# EAGLE library part OSD3358-512M-IND (library Octavo-Systems OSDZU3)
Octavo Systems LLC OSD335x Family SiP: 27mm x 27mm, 1.27mm pitch 400 pin BGA contains AM3358, 512MB DDR3, TPS65217, TL5209 and passives. Industrial Temperature (case): -40C to 85C.
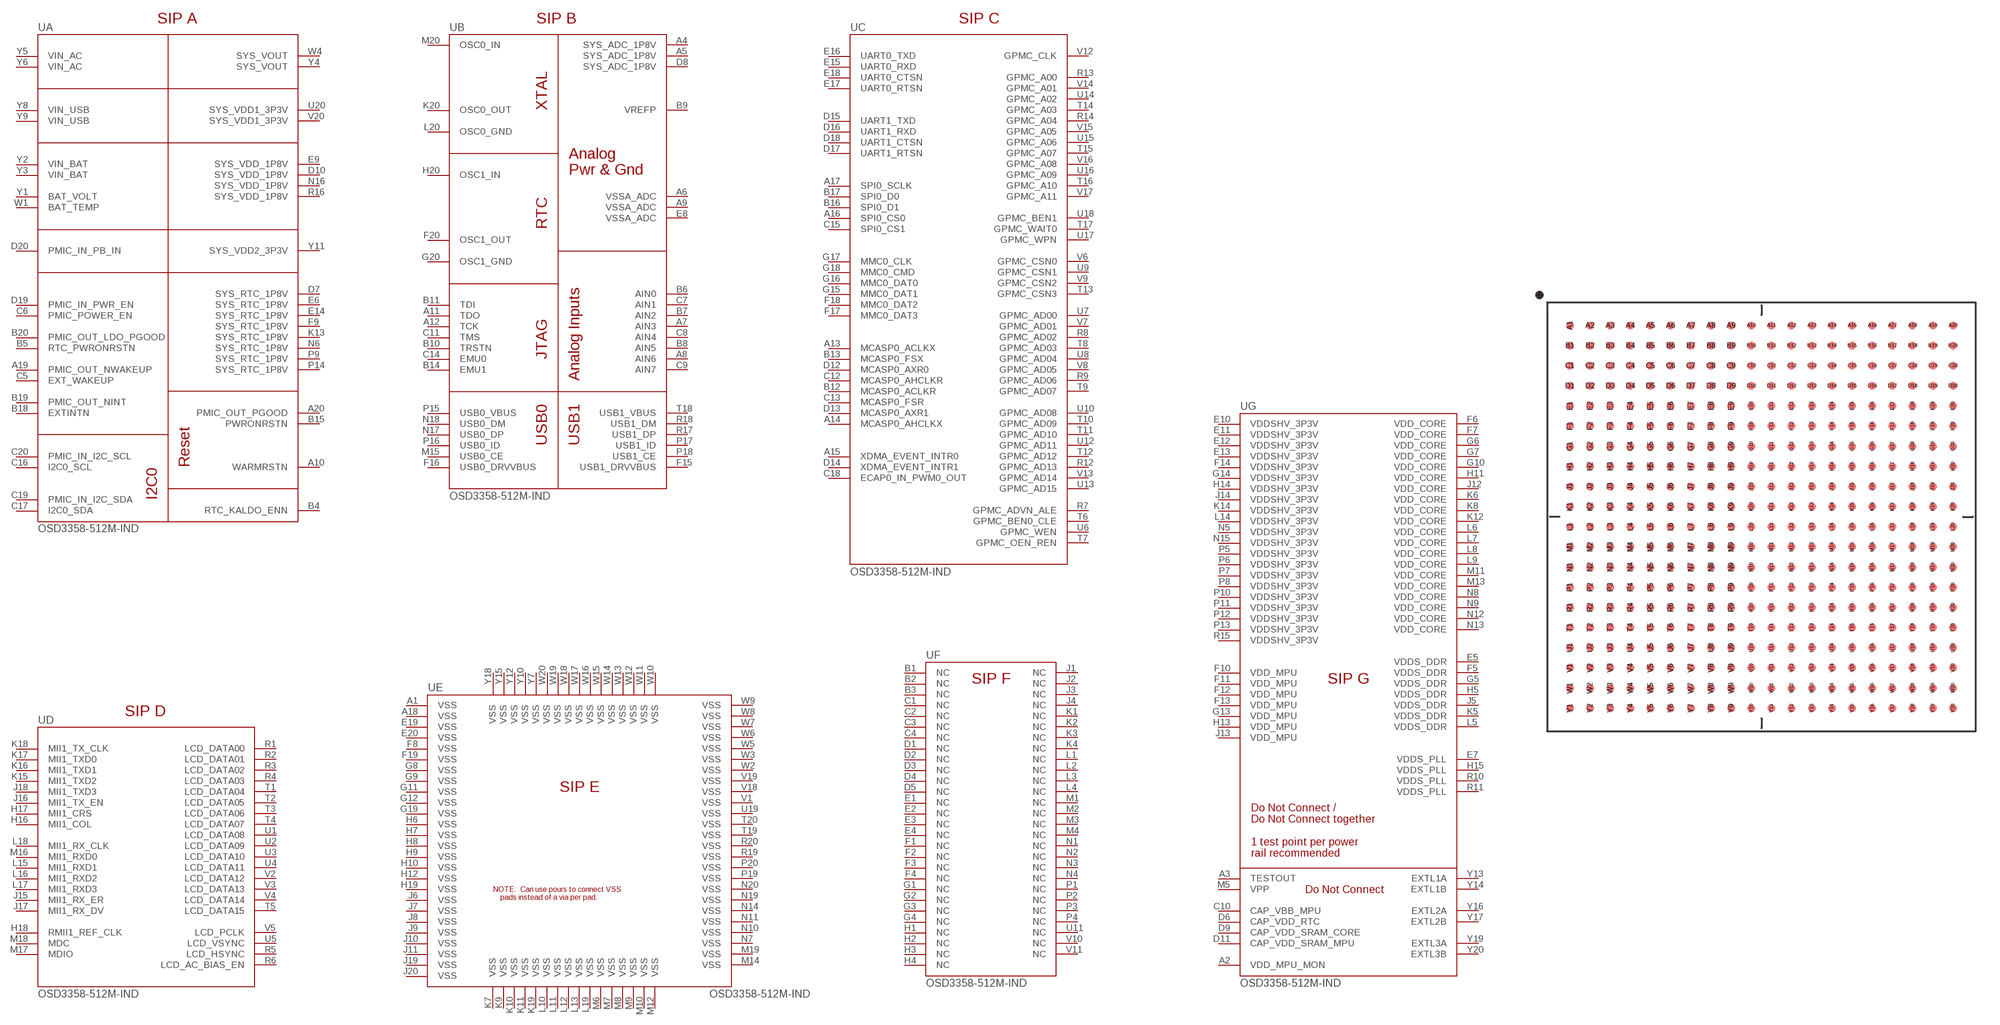
[diagram p4: symbol with the pads of OSD335X-BGA-400; footprint OSD335X-BGA-400]

Designator prefix -; gates A=OSD335X-BASE-LOGICAL-A B=OSD335X-BASE-LOGICAL-B C=OSD335X-BASE-LOGICAL-C D=OSD335X-BASE-LOGICAL-D E=OSD335X-BASE-LOGICAL-E F=OSD335X-BASE-LOGICAL-F G=OSD335X-BASE-LOGICAL-G

## OSD3358-512M-IND  [OSD335X-BGA-400]
A1  E:VSS
A2  G:VDD_MPU_MON
A3  G:TESTOUT
A4  B:SYS_ADC_1P8V
A5  B:SYS_ADC_1P8V
A6  B:VSSA_ADC
A7  B:AIN3
A8  B:AIN6
A9  B:VSSA_ADC
A10  A:WARMRSTN
A11  B:TDO
A12  B:TCK
A13  C:MCASP0_ACLKX
A14  C:MCASP0_AHCLKX
A15  C:XDMA_EVENT_INTR0
A16  C:SPI0_CS0
A17  C:SPI0_SCLK
A18  E:VSS
A19  A:PMIC_OUT_NWAKEUP  out
A20  A:PMIC_OUT_PGOOD  out
B1  F:NC
B2  F:NC
B3  F:NC
B4  A:RTC_KALDO_ENN  in
B5  A:RTC_PWRONRSTN
B6  B:AIN0
B7  B:AIN2
B8  B:AIN5
B9  B:VREFP
B10  B:TRSTN
B11  B:TDI
B12  C:MCASP0_ACLKR
B13  C:MCASP0_FSX
B14  B:EMU1
B15  A:PWRONRSTN  in
B16  C:SPI0_D1
B17  C:SPI0_D0
B18  A:EXTINTN
B19  A:PMIC_OUT_NINT  out
B20  A:PMIC_OUT_LDO_PGOOD  out
C1  F:NC
C2  F:NC
C3  F:NC
C4  F:NC
C5  A:EXT_WAKEUP
C6  A:PMIC_POWER_EN  out
C7  B:AIN1
C8  B:AIN4
C9  B:AIN7
C10  G:CAP_VBB_MPU
C11  B:TMS
C12  C:MCASP0_AHCLKR
C13  C:MCASP0_FSR
C14  B:EMU0
C15  C:SPI0_CS1
C16  A:I2C0_SCL
C17  A:I2C0_SDA
C18  C:ECAP0_IN_PWM0_OUT
C19  A:PMIC_IN_I2C_SDA
C20  A:PMIC_IN_I2C_SCL
D1  F:NC
D2  F:NC
D3  F:NC
D4  F:NC
D5  F:NC
D6  G:CAP_VDD_RTC
D7  A:SYS_RTC_1P8V  out
D8  B:SYS_ADC_1P8V
D9  G:CAP_VDD_SRAM_CORE
D10  A:SYS_VDD_1P8V  out
D11  G:CAP_VDD_SRAM_MPU
D12  C:MCASP0_AXR0
D13  C:MCASP0_AXR1
D14  C:XDMA_EVENT_INTR1
D15  C:UART1_TXD
D16  C:UART1_RXD
D17  C:UART1_RTSN
D18  C:UART1_CTSN
D19  A:PMIC_IN_PWR_EN  in
D20  A:PMIC_IN_PB_IN  in
E1  F:NC
E2  F:NC
E3  F:NC
E4  F:NC
E5  G:VDDS_DDR
E6  A:SYS_RTC_1P8V  out
E7  G:VDDS_PLL
E8  B:VSSA_ADC
E9  A:SYS_VDD_1P8V  out
E10  G:VDDSHV_3P3V
E11  G:VDDSHV_3P3V
E12  G:VDDSHV_3P3V
E13  G:VDDSHV_3P3V
E14  A:SYS_RTC_1P8V  out
E15  C:UART0_RXD
E16  C:UART0_TXD
E17  C:UART0_RTSN
E18  C:UART0_CTSN
E19  E:VSS
E20  E:VSS
F1  F:NC
F2  F:NC
F3  F:NC
F4  F:NC
F5  G:VDDS_DDR
F6  G:VDD_CORE
F7  G:VDD_CORE
F8  E:VSS
F9  A:SYS_RTC_1P8V  out
F10  G:VDD_MPU
F11  G:VDD_MPU
F12  G:VDD_MPU
F13  G:VDD_MPU
F14  G:VDDSHV_3P3V
F15  B:USB1_DRVVBUS
F16  B:USB0_DRVVBUS
F17  C:MMC0_DAT3
F18  C:MMC0_DAT2
F19  E:VSS
F20  B:OSC1_OUT
G1  F:NC
G2  F:NC
G3  F:NC
G4  F:NC
G5  G:VDDS_DDR
G6  G:VDD_CORE
G7  G:VDD_CORE
G8  E:VSS
G9  E:VSS
G10  G:VDD_CORE
G11  E:VSS
G12  E:VSS
G13  G:VDD_MPU
G14  G:VDDSHV_3P3V
G15  C:MMC0_DAT1
G16  C:MMC0_DAT0
G17  C:MMC0_CLK
G18  C:MMC0_CMD
G19  E:VSS
G20  B:OSC1_GND
H1  F:NC
H2  F:NC
H3  F:NC
H4  F:NC
H5  G:VDDS_DDR
H6  E:VSS
H7  E:VSS
H8  E:VSS
H9  E:VSS
H10  E:VSS
H11  G:VDD_CORE
H12  E:VSS
H13  G:VDD_MPU
H14  G:VDDSHV_3P3V
H15  G:VDDS_PLL
H16  D:MII1_COL
H17  D:MII1_CRS
H18  D:RMII1_REF_CLK
H19  E:VSS
H20  B:OSC1_IN
J1  F:NC
J2  F:NC
J3  F:NC
J4  F:NC
J5  G:VDDS_DDR
J6  E:VSS
J7  E:VSS
J8  E:VSS
J9  E:VSS
J10  E:VSS
J11  E:VSS
J12  G:VDD_CORE
J13  G:VDD_MPU
J14  G:VDDSHV_3P3V
J15  D:MII1_RX_ER
J16  D:MII1_TX_EN
J17  D:MII1_RX_DV
J18  D:MII1_TXD3
J19  E:VSS
J20  E:VSS
K1  F:NC
K2  F:NC
K3  F:NC
K4  F:NC
K5  G:VDDS_DDR
K6  G:VDD_CORE
K7  E:VSS
K8  G:VDD_CORE
K9  E:VSS
K10  E:VSS
K11  E:VSS
K12  G:VDD_CORE
K13  A:SYS_RTC_1P8V  out
K14  G:VDDSHV_3P3V
K15  D:MII1_TXD2
K16  D:MII1_TXD1
K17  D:MII1_TXD0
K18  D:MII1_TX_CLK
K19  E:VSS
K20  B:OSC0_OUT
L1  F:NC
L2  F:NC
L3  F:NC
L4  F:NC
L5  G:VDDS_DDR
L6  G:VDD_CORE
L7  G:VDD_CORE
L8  G:VDD_CORE
L9  G:VDD_CORE
L10  E:VSS
L11  E:VSS
L12  E:VSS
L13  E:VSS
L14  G:VDDSHV_3P3V
L15  D:MII1_RXD1
L16  D:MII1_RXD2
L17  D:MII1_RXD3
L18  D:MII1_RX_CLK
L19  E:VSS
L20  B:OSC0_GND
M1  F:NC
M2  F:NC
M3  F:NC
M4  F:NC
M5  G:VPP
M6  E:VSS
M7  E:VSS
M8  E:VSS
M9  E:VSS
M10  E:VSS
M11  G:VDD_CORE
M12  E:VSS
M13  G:VDD_CORE
M14  E:VSS
M15  B:USB0_CE
M16  D:MII1_RXD0
M17  D:MDIO
M18  D:MDC
M19  E:VSS
M20  B:OSC0_IN
N1  F:NC
N2  F:NC
N3  F:NC
N4  F:NC
N5  G:VDDSHV_3P3V
N6  A:SYS_RTC_1P8V  out
N7  E:VSS
N8  G:VDD_CORE
N9  G:VDD_CORE
N10  E:VSS
N11  E:VSS
N12  G:VDD_CORE
N13  G:VDD_CORE
N14  E:VSS
N15  G:VDDSHV_3P3V
N16  A:SYS_VDD_1P8V  out
N17  B:USB0_DP
N18  B:USB0_DM
N19  E:VSS
N20  E:VSS
P1  F:NC
P2  F:NC
P3  F:NC
P4  F:NC
P5  G:VDDSHV_3P3V
P6  G:VDDSHV_3P3V
P7  G:VDDSHV_3P3V
P8  G:VDDSHV_3P3V
P9  A:SYS_RTC_1P8V  out
P10  G:VDDSHV_3P3V
P11  G:VDDSHV_3P3V
P12  G:VDDSHV_3P3V
P13  G:VDDSHV_3P3V
P14  A:SYS_RTC_1P8V  out
P15  B:USB0_VBUS
P16  B:USB0_ID
P17  B:USB1_ID
P18  B:USB1_CE
P19  E:VSS
P20  E:VSS
R1  D:LCD_DATA00
R2  D:LCD_DATA01
R3  D:LCD_DATA02
R4  D:LCD_DATA03
R5  D:LCD_HSYNC
R6  D:LCD_AC_BIAS_EN
R7  C:GPMC_ADVN_ALE
R8  C:GPMC_AD02
R9  C:GPMC_AD06
R10  G:VDDS_PLL
R11  G:VDDS_PLL
R12  C:GPMC_AD13
R13  C:GPMC_A00
R14  C:GPMC_A04
R15  G:VDDSHV_3P3V
R16  A:SYS_VDD_1P8V  out
R17  B:USB1_DP
R18  B:USB1_DM
R19  E:VSS
R20  E:VSS
T1  D:LCD_DATA04
T2  D:LCD_DATA05
T3  D:LCD_DATA06
T4  D:LCD_DATA07
T5  D:LCD_DATA15
T6  C:GPMC_BEN0_CLE
T7  C:GPMC_OEN_REN
T8  C:GPMC_AD03
T9  C:GPMC_AD07
T10  C:GPMC_AD09
T11  C:GPMC_AD10
T12  C:GPMC_AD12
T13  C:GPMC_CSN3
T14  C:GPMC_A03
T15  C:GPMC_A07
T16  C:GPMC_A10
T17  C:GPMC_WAIT0
T18  B:USB1_VBUS
T19  E:VSS
T20  E:VSS
U1  D:LCD_DATA08
U2  D:LCD_DATA09
U3  D:LCD_DATA10
U4  D:LCD_DATA11
U5  D:LCD_VSYNC
U6  C:GPMC_WEN
U7  C:GPMC_AD00
U8  C:GPMC_AD04
U9  C:GPMC_CSN1
U10  C:GPMC_AD08
U11  F:NC
U12  C:GPMC_AD11
U13  C:GPMC_AD15
U14  C:GPMC_A02
U15  C:GPMC_A06
U16  C:GPMC_A09
U17  C:GPMC_WPN
U18  C:GPMC_BEN1
U19  E:VSS
U20  A:SYS_VDD1_3P3V  out
V1  E:VSS
V2  D:LCD_DATA12
V3  D:LCD_DATA13
V4  D:LCD_DATA14
V5  D:LCD_PCLK
V6  C:GPMC_CSN0
V7  C:GPMC_AD01
V8  C:GPMC_AD05
V9  C:GPMC_CSN2
V10  F:NC
V11  F:NC
V12  C:GPMC_CLK
V13  C:GPMC_AD14
V14  C:GPMC_A01
V15  C:GPMC_A05
V16  C:GPMC_A08
V17  C:GPMC_A11
V18  E:VSS
V19  E:VSS
V20  A:SYS_VDD1_3P3V  out
W1  A:BAT_TEMP  in
W2  E:VSS
W3  E:VSS
W4  A:SYS_VOUT  out
W5  E:VSS
W6  E:VSS
W7  E:VSS
W8  E:VSS
W9  E:VSS
W10  E:VSS
W11  E:VSS
W12  E:VSS
W13  E:VSS
W14  E:VSS
W15  E:VSS
W16  E:VSS
W17  E:VSS
W18  E:VSS
W19  E:VSS
W20  E:VSS
Y1  A:BAT_VOLT  in
Y2  A:VIN_BAT  in
Y3  A:VIN_BAT  in
Y4  A:SYS_VOUT  out
Y5  A:VIN_AC  in
Y6  A:VIN_AC  in
Y7  E:VSS
Y8  A:VIN_USB  in
Y9  A:VIN_USB  in
Y10  E:VSS
Y11  A:SYS_VDD2_3P3V  out
Y12  E:VSS
Y13  G:EXTL1A
Y14  G:EXTL1B
Y15  E:VSS
Y16  G:EXTL2A
Y17  G:EXTL2B
Y18  E:VSS
Y19  G:EXTL3A
Y20  G:EXTL3B

## Footprint OSD335X-BGA-400 (pad centres in mm)
smd 0.5 x 0.5: A1 -12.065,12.065; A2 -10.795,12.065; A3 -9.525,12.065; A4 -8.255,12.065; A5 -6.985,12.065; A6 -5.715,12.065; A7 -4.445,12.065; A8 -3.175,12.065; A9 -1.905,12.065; A10 -0.635,12.065; A11 0.635,12.065; A12 1.905,12.065; A13 3.175,12.065; A14 4.445,12.065; A15 5.715,12.065; A16 6.985,12.065; A17 8.255,12.065; A18 9.525,12.065; A19 10.795,12.065; A20 12.065,12.065; B1 -12.065,10.795; B2 -10.795,10.795; B3 -9.525,10.795; B4 -8.255,10.795; B5 -6.985,10.795; B6 -5.715,10.795; B7 -4.445,10.795; B8 -3.175,10.795; B9 -1.905,10.795; B10 -0.635,10.795; B11 0.635,10.795; B12 1.905,10.795; B13 3.175,10.795; B14 4.445,10.795; B15 5.715,10.795; B16 6.985,10.795; B17 8.255,10.795; B18 9.525,10.795; B19 10.795,10.795; B20 12.065,10.795; C1 -12.065,9.525; C2 -10.795,9.525; C3 -9.525,9.525; C4 -8.255,9.525; C5 -6.985,9.525; C6 -5.715,9.525; C7 -4.445,9.525; C8 -3.175,9.525; C9 -1.905,9.525; C10 -0.635,9.525; C11 0.635,9.525; C12 1.905,9.525; C13 3.175,9.525; C14 4.445,9.525; C15 5.715,9.525; C16 6.985,9.525; C17 8.255,9.525; C18 9.525,9.525; C19 10.795,9.525; C20 12.065,9.525; D1 -12.065,8.255; D2 -10.795,8.255; D3 -9.525,8.255; D4 -8.255,8.255; D5 -6.985,8.255; D6 -5.715,8.255; D7 -4.445,8.255; D8 -3.175,8.255; D9 -1.905,8.255; D10 -0.635,8.255; D11 0.635,8.255; D12 1.905,8.255; D13 3.175,8.255; D14 4.445,8.255; D15 5.715,8.255; D16 6.985,8.255; D17 8.255,8.255; D18 9.525,8.255; D19 10.795,8.255; D20 12.065,8.255; E1 -12.065,6.985; E2 -10.795,6.985; E3 -9.525,6.985; E4 -8.255,6.985; E5 -6.985,6.985; E6 -5.715,6.985; E7 -4.445,6.985; E8 -3.175,6.985; E9 -1.905,6.985; E10 -0.635,6.985; E11 0.635,6.985; E12 1.905,6.985; E13 3.175,6.985; E14 4.445,6.985; E15 5.715,6.985; E16 6.985,6.985; E17 8.255,6.985; E18 9.525,6.985; E19 10.795,6.985; E20 12.065,6.985; F1 -12.065,5.715; F2 -10.795,5.715; F3 -9.525,5.715; F4 -8.255,5.715; F5 -6.985,5.715; F6 -5.715,5.715; F7 -4.445,5.715; F8 -3.175,5.715; F9 -1.905,5.715; F10 -0.635,5.715; F11 0.635,5.715; F12 1.905,5.715; F13 3.175,5.715; F14 4.445,5.715; F15 5.715,5.715; F16 6.985,5.715; F17 8.255,5.715; F18 9.525,5.715; F19 10.795,5.715; F20 12.065,5.715; G1 -12.065,4.445; G2 -10.795,4.445; G3 -9.525,4.445; G4 -8.255,4.445; G5 -6.985,4.445; G6 -5.715,4.445; G7 -4.445,4.445; G8 -3.175,4.445; G9 -1.905,4.445; G10 -0.635,4.445; G11 0.635,4.445; G12 1.905,4.445; G13 3.175,4.445; G14 4.445,4.445; G15 5.715,4.445; G16 6.985,4.445; G17 8.255,4.445; G18 9.525,4.445; G19 10.795,4.445; G20 12.065,4.445; H1 -12.065,3.175; H2 -10.795,3.175; H3 -9.525,3.175; H4 -8.255,3.175; H5 -6.985,3.175; H6 -5.715,3.175; H7 -4.445,3.175; H8 -3.175,3.175; H9 -1.905,3.175; H10 -0.635,3.175; H11 0.635,3.175; H12 1.905,3.175; H13 3.175,3.175; H14 4.445,3.175; H15 5.715,3.175; H16 6.985,3.175; H17 8.255,3.175; H18 9.525,3.175; H19 10.795,3.175; H20 12.065,3.175; J1 -12.065,1.905; J2 -10.795,1.905; J3 -9.525,1.905; J4 -8.255,1.905; J5 -6.985,1.905; J6 -5.715,1.905; J7 -4.445,1.905; J8 -3.175,1.905; J9 -1.905,1.905; J10 -0.635,1.905; J11 0.635,1.905; J12 1.905,1.905; J13 3.175,1.905; J14 4.445,1.905; J15 5.715,1.905; J16 6.985,1.905; J17 8.255,1.905; J18 9.525,1.905; J19 10.795,1.905; J20 12.065,1.905; K1 -12.065,0.635; K2 -10.795,0.635; K3 -9.525,0.635; K4 -8.255,0.635; K5 -6.985,0.635; K6 -5.715,0.635; K7 -4.445,0.635; K8 -3.175,0.635; K9 -1.905,0.635; K10 -0.635,0.635; K11 0.635,0.635; K12 1.905,0.635; K13 3.175,0.635; K14 4.445,0.635; K15 5.715,0.635; K16 6.985,0.635; K17 8.255,0.635; K18 9.525,0.635; K19 10.795,0.635; K20 12.065,0.635; L1 -12.065,-0.635; L2 -10.795,-0.635; L3 -9.525,-0.635; L4 -8.255,-0.635; L5 -6.985,-0.635; L6 -5.715,-0.635; L7 -4.445,-0.635; L8 -3.175,-0.635; L9 -1.905,-0.635; L10 -0.635,-0.635; L11 0.635,-0.635; L12 1.905,-0.635; L13 3.175,-0.635; L14 4.445,-0.635; L15 5.715,-0.635; L16 6.985,-0.635; L17 8.255,-0.635; L18 9.525,-0.635; L19 10.795,-0.635; L20 12.065,-0.635; M1 -12.065,-1.905; M2 -10.795,-1.905; M3 -9.525,-1.905; M4 -8.255,-1.905; M5 -6.985,-1.905; M6 -5.715,-1.905; M7 -4.445,-1.905; M8 -3.175,-1.905; M9 -1.905,-1.905; M10 -0.635,-1.905; M11 0.635,-1.905; M12 1.905,-1.905; M13 3.175,-1.905; M14 4.445,-1.905; M15 5.715,-1.905; M16 6.985,-1.905; M17 8.255,-1.905; M18 9.525,-1.905; M19 10.795,-1.905; M20 12.065,-1.905; N1 -12.065,-3.175; N2 -10.795,-3.175; N3 -9.525,-3.175; N4 -8.255,-3.175; N5 -6.985,-3.175; N6 -5.715,-3.175; N7 -4.445,-3.175; N8 -3.175,-3.175; N9 -1.905,-3.175; N10 -0.635,-3.175; N11 0.635,-3.175; N12 1.905,-3.175; N13 3.175,-3.175; N14 4.445,-3.175; N15 5.715,-3.175; N16 6.985,-3.175; N17 8.255,-3.175; N18 9.525,-3.175; N19 10.795,-3.175; N20 12.065,-3.175; P1 -12.065,-4.445; P2 -10.795,-4.445; P3 -9.525,-4.445; P4 -8.255,-4.445; P5 -6.985,-4.445; P6 -5.715,-4.445; P7 -4.445,-4.445; P8 -3.175,-4.445; P9 -1.905,-4.445; P10 -0.635,-4.445; P11 0.635,-4.445; P12 1.905,-4.445; P13 3.175,-4.445; P14 4.445,-4.445; P15 5.715,-4.445; P16 6.985,-4.445; P17 8.255,-4.445; P18 9.525,-4.445; P19 10.795,-4.445; P20 12.065,-4.445; R1 -12.065,-5.715; R2 -10.795,-5.715; R3 -9.525,-5.715; R4 -8.255,-5.715; R5 -6.985,-5.715; R6 -5.715,-5.715; R7 -4.445,-5.715; R8 -3.175,-5.715; R9 -1.905,-5.715; R10 -0.635,-5.715; R11 0.635,-5.715; R12 1.905,-5.715; R13 3.175,-5.715; R14 4.445,-5.715; R15 5.715,-5.715; R16 6.985,-5.715; R17 8.255,-5.715; R18 9.525,-5.715; R19 10.795,-5.715; R20 12.065,-5.715; T1 -12.065,-6.985; T2 -10.795,-6.985; T3 -9.525,-6.985; T4 -8.255,-6.985; T5 -6.985,-6.985; T6 -5.715,-6.985; T7 -4.445,-6.985; T8 -3.175,-6.985; T9 -1.905,-6.985; T10 -0.635,-6.985; T11 0.635,-6.985; T12 1.905,-6.985; T13 3.175,-6.985; T14 4.445,-6.985; T15 5.715,-6.985; T16 6.985,-6.985; T17 8.255,-6.985; T18 9.525,-6.985; T19 10.795,-6.985; T20 12.065,-6.985; U1 -12.065,-8.255; U2 -10.795,-8.255; U3 -9.525,-8.255; U4 -8.255,-8.255; U5 -6.985,-8.255; U6 -5.715,-8.255; U7 -4.445,-8.255; U8 -3.175,-8.255; U9 -1.905,-8.255; U10 -0.635,-8.255; U11 0.635,-8.255; U12 1.905,-8.255; U13 3.175,-8.255; U14 4.445,-8.255; U15 5.715,-8.255; U16 6.985,-8.255; U17 8.255,-8.255; U18 9.525,-8.255; U19 10.795,-8.255; U20 12.065,-8.255; V1 -12.065,-9.525; V2 -10.795,-9.525; V3 -9.525,-9.525; V4 -8.255,-9.525; V5 -6.985,-9.525; V6 -5.715,-9.525; V7 -4.445,-9.525; V8 -3.175,-9.525; V9 -1.905,-9.525; V10 -0.635,-9.525; V11 0.635,-9.525; V12 1.905,-9.525; V13 3.175,-9.525; V14 4.445,-9.525; V15 5.715,-9.525; V16 6.985,-9.525; V17 8.255,-9.525; V18 9.525,-9.525; V19 10.795,-9.525; V20 12.065,-9.525; W1 -12.065,-10.795; W2 -10.795,-10.795; W3 -9.525,-10.795; W4 -8.255,-10.795; W5 -6.985,-10.795; W6 -5.715,-10.795; W7 -4.445,-10.795; W8 -3.175,-10.795; W9 -1.905,-10.795; W10 -0.635,-10.795; W11 0.635,-10.795; W12 1.905,-10.795; W13 3.175,-10.795; W14 4.445,-10.795; W15 5.715,-10.795; W16 6.985,-10.795; W17 8.255,-10.795; W18 9.525,-10.795; W19 10.795,-10.795; W20 12.065,-10.795; Y1 -12.065,-12.065; Y2 -10.795,-12.065; Y3 -9.525,-12.065; Y4 -8.255,-12.065; Y5 -6.985,-12.065; Y6 -5.715,-12.065; Y7 -4.445,-12.065; Y8 -3.175,-12.065; Y9 -1.905,-12.065; Y10 -0.635,-12.065; Y11 0.635,-12.065; Y12 1.905,-12.065; Y13 3.175,-12.065; Y14 4.445,-12.065; Y15 5.715,-12.065; Y16 6.985,-12.065; Y17 8.255,-12.065; Y18 9.525,-12.065; Y19 10.795,-12.065; Y20 12.065,-12.065